# EAGLE library part IM-RELAY (library dtb)
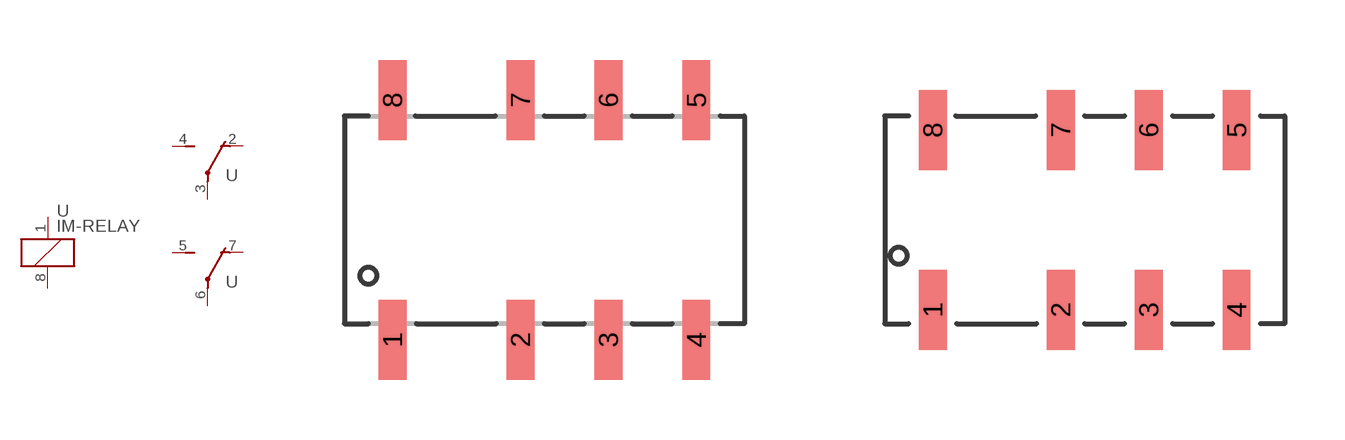
[diagram p15: symbol with the pads of IMXXGR; footprints IMXXGR, IMXXJR]

Designator prefix -; gates G$1=K G$2=U G$3=U

## IM-RELAY  [IMXXGR]
1  G$1:1  pas
2  G$2:O  pas
3  G$2:P  pas
4  G$2:S  pas
5  G$3:S  pas
6  G$3:P  pas
7  G$3:O  pas
8  G$1:2  pas

## IM-RELAYJ  [IMXXJR]
Pads as for IMXXGR

## Footprint IMXXGR (pad centres in mm)
smd 0.7 x 2: 1 0,0; 2 3.2,0; 3 5.4,0; 4 7.6,0; 5 7.6,6; 6 5.4,6; 7 3.2,6; 8 0,6

## Footprint IMXXJR (pad centres in mm)
smd 0.7 x 2: 1 0,-0.52; 2 3.2,-0.52; 3 5.4,-0.52; 4 7.6,-0.52; 5 7.6,3.98; 6 5.4,3.98; 7 3.2,3.98; 8 0,3.98